# Altium footprint library imxbb.PcbLib: 75 footprints (part 2 of 5)
Each footprint in its own frame and in the unit in brackets; x right, y up, seen from the top. Pads: shape width x height; smd on the part's side, far side on the other; paste and mask are expansions set on the pad; w line width, h text height; cw(c..) or ccw(c..) is an arc to the next point about the centre after c.
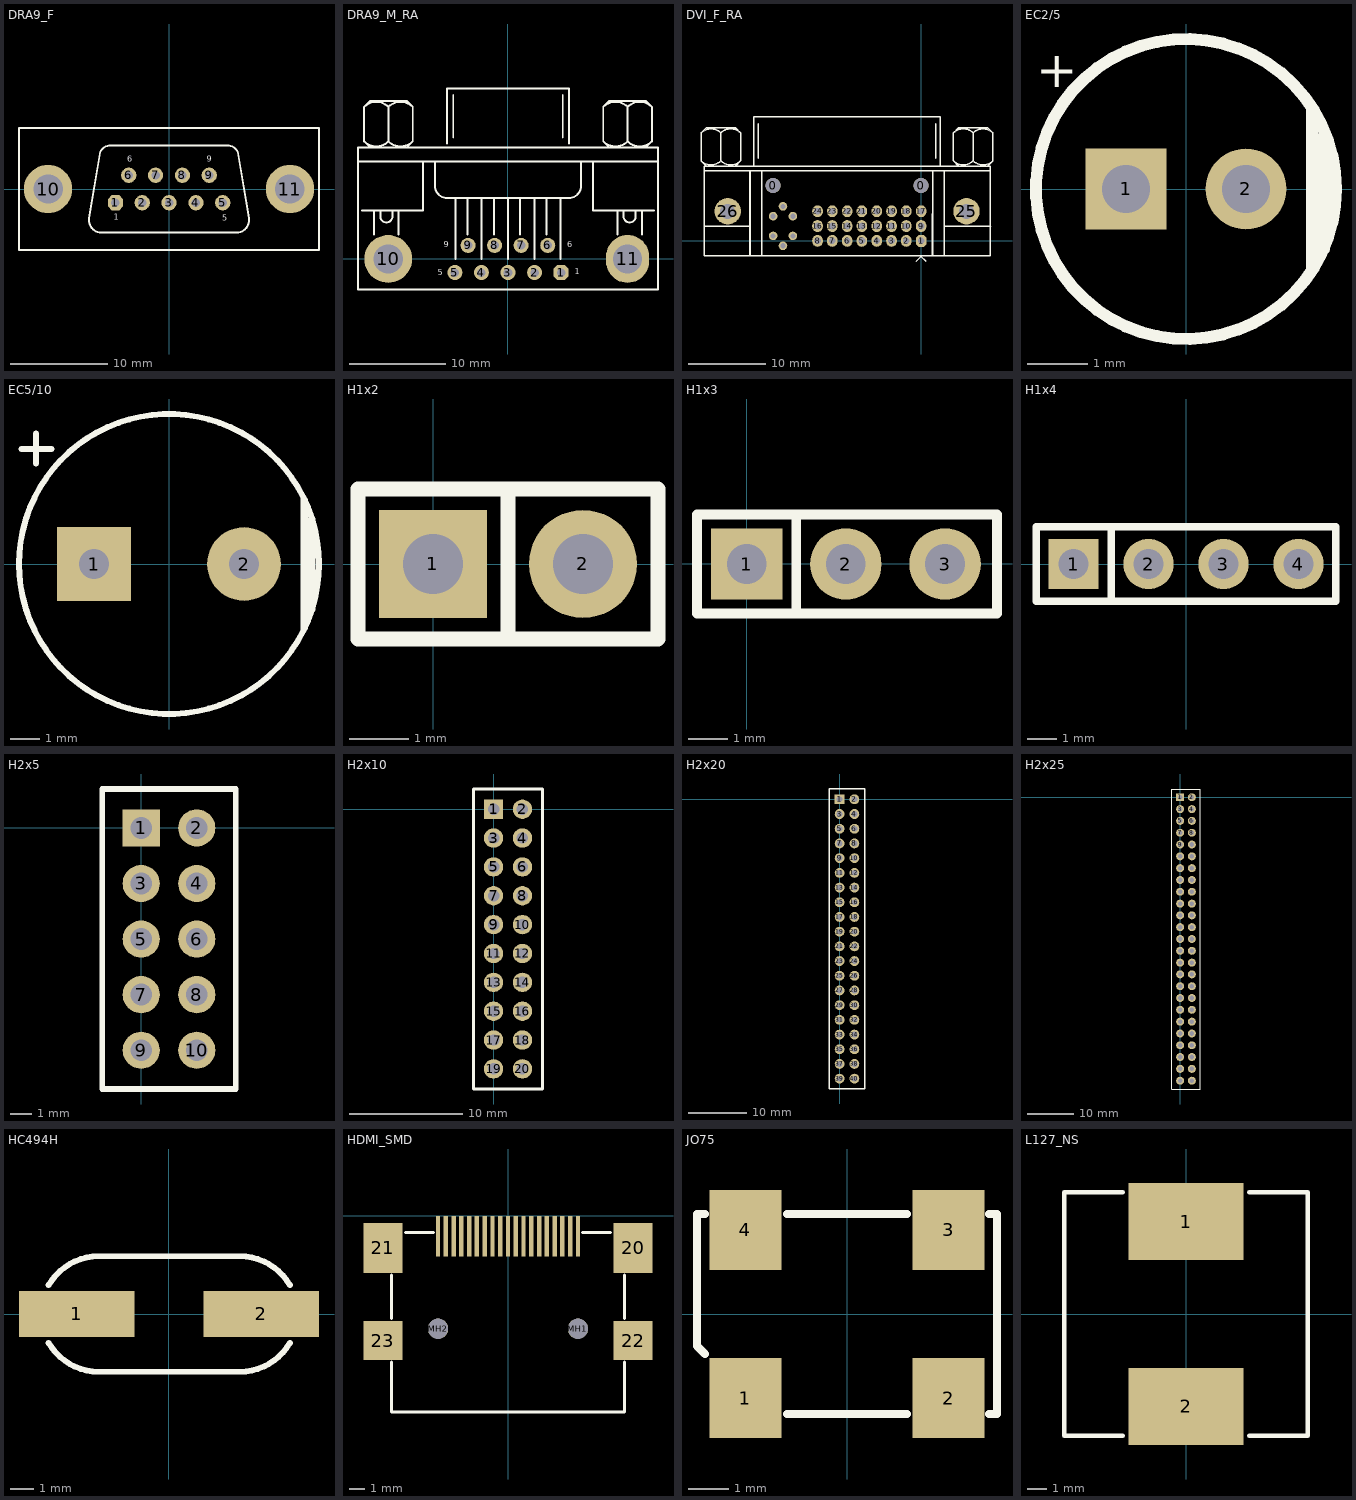
[diagram p1: the footprints below, top view; thin cyan lines are the x and y axes]

## DRA9_F [mm]
pads (11):
  oct 1.575x1.575 hole 0.889: 1(-5.535,-1.418)
  round 1.575 hole 0.889: 2(-2.762,-1.418) 3(0.011,-1.418) 4(2.783,-1.418) 5(5.556,-1.418) 6(-4.159,1.418) 7(-1.386,1.418) 8(1.386,1.418) 9(4.159,1.418)
  round 4.995 hole 3.048: 10(-12.499,0) 11(12.499,0)
Top Overlay:
  lines w0.2: -8.251,-3.009 -7.1,3.865 ; 7.1,3.865 8.251,-3.009
  lines w0.203: -8.251,-3.009 ccw(c-7,-3.23) -7,-4.5 7,-4.5 ccw(c7,-3.23) 8.251,-3.009 ; -7.1,3.865 cw(c-6,3.23) -6,4.5 6,4.5 cw(c6,3.23) 7.1,3.865 ; -15.5,-6.3 15.5,-6.3 15.5,6.3 -15.5,6.3 -15.5,-6.3
  text "6" at -4.3,2.8 h0.6
  text "1" at -5.7,-3.2 h0.6
  text "5" at 5.5,-3.3 h0.6
  text "9" at 3.9,2.8 h0.6

## DRA9_M_RA [mil]
pads (11):
  oct 62x62 hole 35: 1(218.75,-55.83)
  round 62 hole 35: 2(109.58,-55.83) 3(0.42,-55.83) 4(-108.75,-55.83) 5(-217.92,-55.83) 6(163.75,55.83) 7(54.58,55.83) 8(-54.58,55.83) 9(-163.75,55.83)
  round 196.85 hole 120: 10(-492.09,0)
  oval 177.17x196.85 hole 120: 11(492.09,0)
Top Overlay:
  lines w8: -616.25,400 617.08,400 ; -599.58,200 -349.58,200 -349.58,400 ; -591.34,483.25 ccw(c-541.25,533.33) -491.16,483.25 ; -591.34,625.09 cw(c-541.25,575) -491.16,625.09 ; -566.25,458.33 -591.25,483.33 -591.25,625 -566.25,650 -416.25,650 -391.25,625 -391.25,483.33 -416.25,458.33 ; -549.58,100 -549.58,200 ; -524.58,200 -524.58,175 ccw(c-499.58,175) -474.58,175 -474.58,200 ; -491.34,483.25 ccw(c-441.25,533.33) -391.16,483.25 ; -491.34,625.09 cw(c-441.25,575) -391.16,625.09 ; -491.25,483.33 -491.25,625 ; -449.58,100 -449.58,200 ; -299.58,400 -299.58,300 ccw(c-249.58,300) -249.58,250 250.42,250 ccw(c250.42,300) 300.42,300 300.42,400 ; -249.58,475 -249.58,700 250.42,700 250.42,475 ; -224.58,500 -224.58,675 ; -216.25,0 -216.25,250 ; -166.25,100 -166.25,250 ; -107.92,0 -107.92,250 ; -57.92,100 -57.92,250 ; 0.42,0 0.42,250 ; 50.42,100 50.42,250 ; 108.75,0 108.75,250 ; 158.75,100 158.75,250 ; 217.08,0 217.08,250 ; 225.42,500 225.42,675 ; 350.42,400 350.42,200 600.42,200 ; 392,483.25 ccw(c442.08,533.33) 492.17,483.25 ; 392,625.09 cw(c442.08,575) 492.17,625.09 ; 417.08,458.33 392.08,483.33 392.08,625 417.08,650 567.08,650 592.08,625 592.08,483.33 567.08,458.33 ; 450.42,100 450.42,200 ; 475.42,200 475.42,175 ccw(c500.42,175) 525.42,175 525.42,200 ; 492,483.25 ccw(c542.08,533.33) 592.17,483.25 ; 492,625.09 cw(c542.08,575) 592.17,625.09 ; 492.08,483.33 492.08,625 ; 550.42,100 550.42,200 ; -616.25,-125 617.08,-125 617.08,458.33 -616.25,458.33 -616.25,-125
  text "6" at 244.09,47.24 h23.62
  text "1" at 275.59,-62.99 h23.62
  text "5" at -287.4,-66.93 h23.62
  text "9" at -263.78,47.24 h23.62

## DVI_F_RA [mm]
pads (34):
  round 1.93 hole 1.93 unplated: 0(-19.05,7.11) 0(0,7.11)
  oct 1.36x1.522 hole 0.86: 1(0,0)
  oval 1.36x1.522 hole 0.86: 2(-1.905,0) 3(-3.81,0) 4(-5.715,0) 5(-7.62,0) 6(-9.525,0) 7(-11.43,0) 8(-13.335,0) 9(0,1.905) 10(-1.905,1.905) 11(-3.81,1.905) 12(-5.715,1.905) 13(-7.62,1.905) 14(-9.525,1.905) 15(-11.43,1.905) 16(-13.335,1.905) 17(0,3.81) 18(-1.905,3.81) 19(-3.81,3.81) 20(-5.715,3.81) 21(-7.62,3.81) 22(-9.525,3.81) 23(-11.43,3.81) 24(-13.335,3.81)
  round 3.4 hole 1.93: 25(5.84,3.81) 26(-24.89,3.81)
  round 1.1 hole 0.66: C1(-16.51,0.635) C2(-19.05,0.635) C3(-16.51,3.175) C4(-19.05,3.175) C5(-17.78,4.445) C6(-17.78,-0.635)
Top Overlay:
  lines w0.2: -28.321,10.296 ccw(c-27.048,11.568) -25.776,10.296 ; -28.321,13.899 cw(c-27.048,12.627) -25.776,13.899 ; -27.94,9.04 8.89,9.04 ; -27.9,1.9 -22,1.9 ; -27.684,9.663 -28.319,10.298 -28.319,13.897 -27.684,14.532 -23.874,14.532 -23.239,13.897 -23.239,10.298 -23.874,9.663 ; -25.781,10.296 ccw(c-24.508,11.568) -23.236,10.296 ; -25.781,13.899 cw(c-24.508,12.627) -23.236,13.899 ; -25.775,10.298 -25.775,13.897 ; -22.025,-1.9 -22.025,9 ; -21.54,9.7 -21.54,15.95 2.49,15.95 2.49,9.7 ; -20.94,10.622 -20.94,15.067 ; -20.525,-1.9 -20.525,9 ; -0.6,-2.6 0,-2 0.6,-2.6 ; 1.465,-1.9 1.5,9 ; 1.89,10.622 1.89,15.067 ; 2.975,-1.9 2.975,9 ; 2.975,1.9 8.95,1.9 ; 4.156,10.296 ccw(c5.428,11.568) 6.7,10.296 ; 4.156,13.899 cw(c5.428,12.627) 6.7,13.899 ; 4.793,9.663 4.158,10.298 4.158,13.897 4.793,14.532 8.603,14.532 9.238,13.897 9.238,10.298 8.603,9.663 ; 6.696,10.296 ccw(c7.968,11.568) 9.24,10.296 ; 6.696,13.899 cw(c7.968,12.627) 9.24,13.899 ; 6.725,10.298 6.725,13.897 ; -27.94,-1.91 8.89,-1.91 8.89,9.63 -27.94,9.63 -27.94,-1.91

## EC2/5 [mm]
height 12
pads (2):
  rect 1.35x1.35 hole 0.8: 1(-1,0)
  round 1.35 hole 0.8: 2(1,0)
Top Overlay:
  circle w0.2: c0,0 r2.5
  lines w0.2: 2.1,-1.3 2.1,1.3 ; 2.3,-1 2.3,0.9
  text "+" at -2.5,1.7 h0.6

## EC5/10 [mm]
pads (2):
  rect 2.5x2.5 hole 1: 1(-2.54,0)
  round 2.5 hole 1: 2(2.54,0)
Top Overlay:
  circle w0.2: c0,0 r5.08
  lines w0.2: -5,3.9 -3.984,3.9 ; -4.5,3.4 -4.5,4.416
  lines w0.254: 4.572,-2.159 4.572,2.159 ; 4.826,-1.524 4.826,1.524

## H1x2 [mil]
pads (2):
  rect 72x72 hole 40: 1(0,0)
  round 72 hole 40: 2(100,0)
Top Overlay:
  lines w10: 50,-50 50,50 ; -50,-50 -50,0 -50,50 150,50 150,-50 -50,-50

## H1x3 [mil]
pads (3):
  rect 72x72 hole 40: 1(0,0)
  round 72 hole 40: 2(100,0) 3(200,0)
Top Overlay:
  lines w10: 50,-50 50,50 ; -50,-50 252.36,-50 252.36,50 -50,50 -50,0 -50,-50

## H1x4 [mm]
pads (4):
  rect 1.7x1.7 hole 1: 1(-3.81,0)
  round 1.7 hole 1: 2(-1.27,0) 3(1.27,0) 4(3.81,0)
Top Overlay:
  lines w0.254: -2.54,-1.27 -2.54,1.27 ; -5.08,-1.27 5.08,-1.27 5.08,1.27 -5.08,1.27 -5.08,0 -5.08,-1.27

## H2x5 [mm]
pads (10):
  rect 1.7x1.7 hole 1: 1(0,0)
  round 1.7 hole 1: 2(2.54,0) 3(0,-2.54) 4(2.54,-2.54) 5(0,-5.08) 6(2.54,-5.08) 7(0,-7.62) 8(2.54,-7.62) 9(0,-10.16) 10(2.54,-10.16)
Top Overlay:
  lines w0.254: -1.778,-11.93 -1.778,1.778 4.318,1.778 4.318,-11.93 -1.778,-11.93

## H2x10 [mm]
pads (20):
  rect 1.7x1.7 hole 1: 1(0,0)
  round 1.7 hole 1: 2(2.54,0) 3(0,-2.54) 4(2.54,-2.54) 5(0,-5.08) 6(2.54,-5.08) 7(0,-7.62) 8(2.54,-7.62) 9(0,-10.16) 10(2.54,-10.16) 11(0,-12.7) 12(2.54,-12.7) 13(0,-15.24) 14(2.54,-15.24) 15(0,-17.78) 16(2.54,-17.78) 17(0,-20.32) 18(2.54,-20.32) 19(0,-22.86) 20(2.54,-22.86)
Top Overlay:
  lines w0.254: -1.778,-24.63 4.318,-24.63 4.318,1.778 -1.778,1.778 -1.778,-24.63

## H2x20 [mm]
pads (40):
  rect 1.7x1.7 hole 1: 1(0,0)
  round 1.7 hole 1: 2(2.54,0) 3(0,-2.54) 4(2.54,-2.54) 5(0,-5.08) 6(2.54,-5.08) 7(0,-7.62) 8(2.54,-7.62) 9(0,-10.16) 10(2.54,-10.16) 11(0,-12.7) 12(2.54,-12.7) 13(0,-15.24) 14(2.54,-15.24) 15(0,-17.78) 16(2.54,-17.78) 17(0,-20.32) 18(2.54,-20.32) 19(0,-22.86) 20(2.54,-22.86) 21(0,-25.39) 22(2.54,-25.39) 23(0,-27.93) 24(2.54,-27.93) 25(0,-30.47) 26(2.54,-30.47) 27(0,-33.01) 28(2.54,-33.01) 29(0,-35.55) 30(2.54,-35.55) 31(0,-38.08) 32(2.54,-38.08) 33(0,-40.62) 34(2.54,-40.62) 35(0,-43.16) 36(2.54,-43.16) 37(0,-45.7) 38(2.54,-45.7) 39(0,-48.24) 40(2.54,-48.24)
Top Overlay:
  lines w0.254: -1.778,-50.025 -1.778,1.778 4.318,1.778 4.318,-50.025 -1.778,-50.025

## H2x25 [mm]
pads (50):
  rect 1.7x1.7 hole 1: 1(0,0)
  round 1.7 hole 1: 2(2.54,0) 3(0,-2.54) 4(2.54,-2.54) 5(0,-5.08) 6(2.54,-5.08) 7(0,-7.62) 8(2.54,-7.62) 9(0,-10.16) 10(2.54,-10.16) 11(0,-12.7) 12(2.54,-12.7) 13(0,-15.24) 14(2.54,-15.24) 15(0,-17.78) 16(2.54,-17.78) 17(0,-20.32) 18(2.54,-20.32) 19(0,-22.86) 20(2.54,-22.86) 21(0,-25.39) 22(2.54,-25.39) 23(0,-27.93) 24(2.54,-27.93) 25(0,-30.47) 26(2.54,-30.47) 27(0,-33.01) 28(2.54,-33.01) 29(0,-35.55) 30(2.54,-35.55) 31(0,-38.08) 32(2.54,-38.08) 33(0,-40.62) 34(2.54,-40.62) 35(0,-43.16) 36(2.54,-43.16) 37(0,-45.7) 38(2.54,-45.7) 39(0,-48.24) 40(2.54,-48.24) 41(0,-50.78) 42(2.54,-50.78) 43(0,-53.32) 44(2.54,-53.32) 45(0,-55.86) 46(2.54,-55.86) 47(0,-58.4) 48(2.54,-58.4) 49(0,-60.94) 50(2.54,-60.94)
Top Overlay:
  lines w0.254: -1.778,-62.725 -1.778,1.778 4.318,1.778 4.318,-62.725 -1.778,-62.725

## HC494H [mm]
pads (2):
  rect 5x2 smd: 1(-4,0) 2(4,0)
Top Overlay:
  lines w0.254: -5.215,-1.25 ccw(c-3.05,0) -3.05,-2.5 ; -5.215,1.25 cw(c-3.05,0) -3.05,2.5 ; -3.048,-2.5 3.075,-2.5 ccw(c3.075,0) 5.24,-1.25 ; -3.048,2.5 3.075,2.5 ; 3.075,2.5 cw(c3.075,0) 5.24,1.25

## HDMI_SMD [mm]
pads (25):
  rect 0.28x2.6 smd: 1(4.5,-1.3) 2(4,-1.3) 3(3.5,-1.3) 4(3,-1.3) 5(2.5,-1.3) 6(2,-1.3) 7(1.5,-1.3) 8(1,-1.3) 9(0.5,-1.3) 10(0,-1.3) 11(-0.5,-1.3) 12(-1,-1.3) 13(-1.5,-1.3) 14(-2,-1.3) 15(-2.5,-1.3) 16(-3,-1.3) 17(-3.5,-1.3) 18(-4,-1.3) 19(-4.5,-1.3)
  rect 2.5x3.2 smd: 20(8.05,-2.06) 21(-8.05,-2.06)
  rect 2.5x2.5 smd: 22(8.05,-8.02) 23(-8.05,-8.02)
  round 1.3 hole 1.3 unplated: MH1(4.5,-7.26) MH2(-4.5,-7.26)
Top Overlay:
  lines w0.2: -7.5,-9.4 -7.5,-12.62 7.5,-12.62 7.5,-9.4 ; -7.5,-6.6 -7.5,-3.8 ; -6.6,-1.06 -4.8,-1.06 ; 4.8,-1.06 6.6,-1.06 ; 7.5,-6.6 7.5,-3.8

## JO75 [mm]
pads (4):
  rect 1.8x2 smd: 1(-2.54,-2.1) 2(2.54,-2.1) 3(2.54,2.1) 4(-2.54,2.1)
Top Overlay:
  lines w0.2: -3.55,-1 -3.75,-0.8 -3.75,2.5 -3.55,2.5 ; -1.5,-2.5 1.5,-2.5 ; -1.5,2.5 1.5,2.5 ; 3.55,-2.5 3.75,-2.5 3.75,2.5 3.55,2.5

## L127_NS [mm]
pads (2):
  rect 6x4 smd: 1(0,4.826) 2(0,-4.826)
Top Overlay:
  lines w0.254: -3.302,-6.35 -6.35,-6.35 -6.35,6.35 -3.302,6.35 ; 3.302,-6.35 6.35,-6.35 6.35,6.35 3.302,6.35